# EAGLE library part TPD4E004DRYR (library NM_Visual_Cortex_12-10-18)
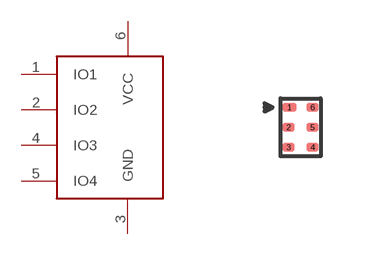
[diagram p8: symbol with the pads of USON-6; footprint USON-6]

Designator prefix -

## TPD4E004DRYR  [USON-6]
1  IO1
2  IO2
3  GND
4  IO3
5  IO4
6  VCC

## Footprint USON-6 (pad centres in mm)
smd 0.35 x 0.2: 1 -0.275,0.5
smd 0.3 x 0.2: 2 -0.3,0; 3 -0.3,-0.5; 4 0.3,-0.5; 5 0.3,0; 6 0.3,0.5